# EAGLE library part BQ2477X (library m_ic-power)
bq2477x, NVDC Battery Charge Controller with with System Power Monitor and Processor Hot Indicator Features Host-controlled NVDC-1 1S-4S Battery Charge Controller with 4.5-24 V Input Range – Support SMBus (bq24770) and I2C (bq24773) – System Instant-on Operation with no Battery or Deeply Discharged Battery – Supplement Mode with Synchronous BATFET Control when Adaptor is fully loaded Ultra Fast Input Current DPM at 100 μs Ultra Low Quiescent Current of 600 μA and High PFM Light Load Efficiency >80% at 20 mA Load to Meet Energy Star and ErP Lot6. High Accuracy Power / Current Monitor for CPU Throttling – Comprehensive PROCHOT Profile – Input and Battery Current Monitor (IADP/IBAT) – System Power Monitor (PMON) Programmable Input Current Limit, Charge Voltage, Charge Current and Minimum System Voltage Regulation – ±0.5% Charge Voltage (16 mV/step) – ±2% Input/charge Current (64 mA/step) – ±2% 40x Input / 16x Discharge / 20x Charge Current Monitor Support Battery LEARN Function High Integration – NMOS ACFET and RBFET Driver – PMOS battery FET Gate Driver – Internal Loop Compensation – Independent Comparator – Automatic Trickle Charge to Wake up Gas Gauge 600kHz to 1.2MHz Programmable Switching Frequency Based on data from TI document SLUSC03A – AUGUST 2014 – REVISED OCTOBER 2014. Added 2016-05-30.
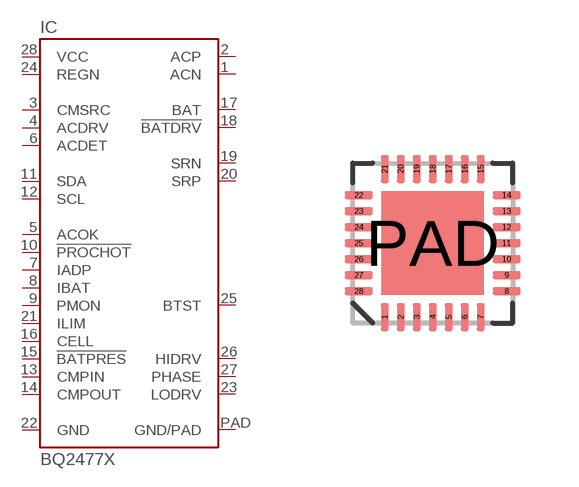
[diagram p10: symbol with the pads of S-PWQFN-N28; footprint S-PWQFN-N28]

Designator prefix IC

## BQ2477X (MANUF: TI; PARTNUM: bq2477X)  [S-PWQFN-N28]
1  ACN  pas
2  ACP  pas
3  CMSRC  pas
4  ACDRV  pas
5  ACOK  pas
6  ACDET  pas
7  IADP  pas
8  IBAT  pas
9  PMON  pas
10  !PROCHOT  pas
11  SDA  pas
12  SCL  pas
13  CMPIN  pas
14  CMPOUT  pas
15  !BATPRES  pas
16  CELL  pas
17  BAT  pas
18  !BATDRV  pas
19  SRN  pas
20  SRP  pas
21  ILIM  pas
22  GND  pas
23  LODRV  pas
24  REGN  pas
25  BTST  pas
26  HIDRV  pas
27  PHASE  pas
28  VCC  pas
PAD  GND/PAD  pas

## Footprint S-PWQFN-N28 (pad centres in mm)
28 Pin WQFN Package. 4.15mm x 4.15mm x 0.80mm Plastic Quad Flatpack No-Lead, based on TI drawings 4209428/B 06/08, 4209490/D 02/14, 4209822/C 02/14. Note: TI recommends 0.05mm solder mask clearance for this footprint. 9x 0.3mm diameter thermal vias recommended in thermal pad. Added 5/31/2016.
smd 0.2 x 0.7: 1 -1.2,-1.85; 2 -0.8,-1.85; 3 -0.4,-1.85; 4 0,-1.85; 5 0.4,-1.85; 6 0.8,-1.85; 7 1.2,-1.85; 15 1.2,1.85; 16 0.8,1.85; 17 0.4,1.85; 18 0,1.85; 19 -0.4,1.85; 20 -0.8,1.85; 21 -1.2,1.85
smd 0.7 x 0.2: 8 1.85,-1.2; 9 1.85,-0.8; 10 1.85,-0.4; 11 1.85,0; 12 1.85,0.4; 13 1.85,0.8; 14 1.85,1.2; 22 -1.85,1.2; 23 -1.85,0.8; 24 -1.85,0.4; 25 -1.85,0; 26 -1.85,-0.4; 27 -1.85,-0.8; 28 -1.85,-1.2
smd 2.6 x 2.6: PAD 0,0